# Altium schematic symbol library Capacitor_pol.SchLib: 1 symbol
Pins are listed as number, name and electrical type; pins without a type are passive.

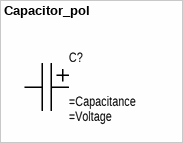
[diagram p0: symbol Capacitor_pol]

## Capacitor_pol
designator C?
Parameter: =Voltage
pins: 1, 2